# Altium schematic symbol library Arducam OV5642.SchLib: 1 symbol
Pins are listed as number, name and electrical type; pins without a type are passive.

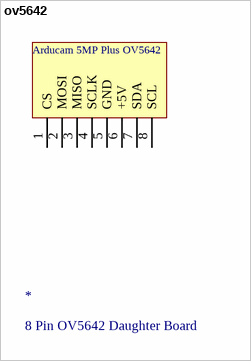
[diagram p0: symbol ov5642]

## ov5642
designator *, comment 8 Pin OV5642 Daughter Board
pins: 1 CS "SPI slave chip select input", 2 MOSI "SPI Master Output Slave Input", 3 MISO "SPI master input slave output", 4 SCLK "SPI Serial Clock", 5 GND "Ground", 6 +5V "5V POWER", 7 SDA "Two-Wire Serial Interface Data I/O", 8 SCL "Two-Wire Serial Interface Clock"
text: Arducam 5MP Plus OV5642